# EAGLE library part 53398-0610 (library con-molex-picoblade)
HEADER
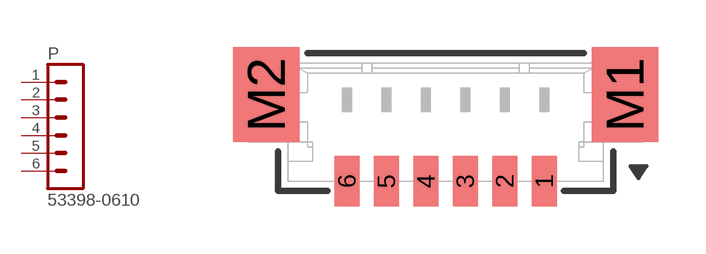
[diagram p20: symbol with the pads of 53398-0610; footprint 53398-0610]

Designator prefix P

## 53398-0610  [53398-0610]
1  1  pas
2  2  pas
3  3  pas
4  4  pas
5  5  pas
6  6  pas

## Footprint 53398-0610 (pad centres in mm)
HEADER
smd 0.8 x 1.6: 1 3.125,0; 2 1.875,0; 3 0.625,0; 4 -0.625,0; 5 -1.875,0; 6 -3.125,0
smd 2.1 x 3: M1 5.685,2.75; M2 -5.685,2.75